# EAGLE library part TB6612FNG (library IntegerLabs)
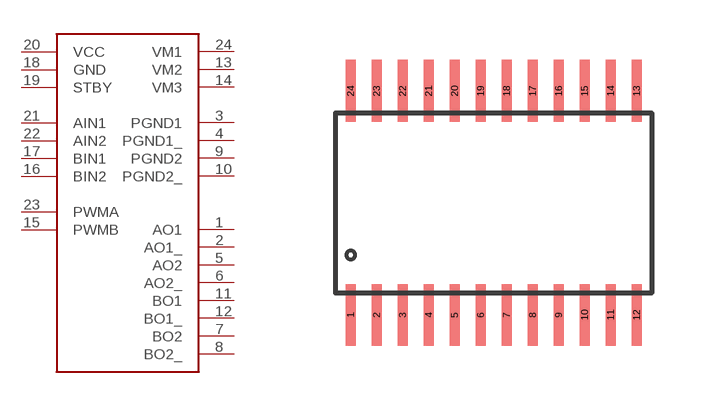
[diagram p8: symbol with the pads of SSOP-24; footprint SSOP-24]

Designator prefix -

## TB6612FNG  [SSOP-24]
1  AO1
2  AO1_
3  PGND1
4  PGND1_
5  AO2
6  AO2_
7  BO2
8  BO2_
9  PGND2
10  PGND2_
11  BO1
12  BO1_
13  VM2
14  VM3
15  PWMB
16  BIN2
17  BIN1
18  GND
19  STBY
20  VCC
21  AIN1
22  AIN2
23  PWMA
24  VM1

## Footprint SSOP-24 (pad centres in mm)
smd 0.25 x 1.55: 1 -3.575,-2.8; 2 -2.925,-2.8; 3 -2.275,-2.8; 4 -1.625,-2.8; 5 -0.975,-2.8; 6 -0.325,-2.8; 7 0.325,-2.8; 8 0.975,-2.8; 9 1.625,-2.8; 10 2.275,-2.8; 11 2.925,-2.8; 12 3.575,-2.8; 13 3.575,2.8; 14 2.925,2.8; 15 2.275,2.8; 16 1.625,2.8; 17 0.975,2.8; 18 0.325,2.8; 19 -0.325,2.8; 20 -0.975,2.8; 21 -1.625,2.8; 22 -2.275,2.8; 23 -2.925,2.8; 24 -3.575,2.8